# Altium schematic symbol library 103AT-2.SchLib: 1 symbol
Pins are listed as number, name and electrical type; pins without a type are passive.

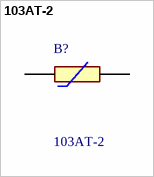
[diagram p0: symbol 103AT-2]

## 103AT-2
designator B?
NTC (Negative Temperature Coefficient) Thermistors 10kohm 1%; Manufacturer_Name: Semitec; Geometry.Height: 9.5mm; Mouser Part Number: 954-103AT-2; Mouser Price/Stock: https://www.mouser.co.uk/ProductDetail/Semitec/103AT-2?qs=wgO0AD0o1vvcDzsKguD%252Bew%3D%3D; Manufacturer_Part_Number: 103AT-2; Datasheet Link: https://www.semitec-global.com/uploads/2022/01/P12-13-AT-Thermistor.pdf
footprint 103AT2
pins: 1, 2